# EAGLE library part TLC5940 (library Ai_IC)
16-channel LED Driver with Dot Correction and Grayscale PWM Control The TLC5940 is a 16-channel, constant-current sink LED driver. Each channel has an individually adjustable 4096-step grayscale PWM brightness control and a 64-step, constant-current sink (dot correction). The dot correction adjusts the brightness variations between LED channels and other LED drivers. The dot correction data is stored in an integrated EEPROM. Both grayscale control and dot correction are accessible via a serial interface. A single external resistor sets the maximum current value of all 16 channels. Packages: 28-pin HTSSOP 32-pin 5x5mm QFN 28-pin DIP
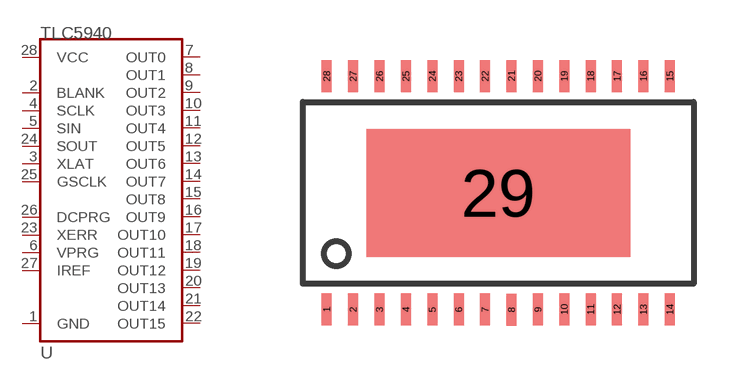
[diagram p0: symbol with the pads of TSSOP28-PAD; footprint TSSOP28-PAD]

Designator prefix U

## TLC5940  [TSSOP28-PAD]
1  GND
2  BLANK
3  XLAT
4  SCLK
5  SIN
6  VPRG
7  OUT0
8  OUT1
9  OUT2
10  OUT3
11  OUT4
12  OUT5
13  OUT6
14  OUT7
15  OUT8
16  OUT9
17  OUT10
18  OUT11
19  OUT12
20  OUT13
21  OUT14
22  OUT15
23  XERR
24  SOUT
25  GSCLK
26  DCPRG
27  IREF
28  VCC

## Footprint TSSOP28-PAD (pad centres in mm)
smd 0.25 x 0.8: 1 -4.298,-3.175; 2 -3.637,-3.175; 3 -2.977,-3.175; 4 -2.317,-3.175; 5 -1.656,-3.175; 6 -0.996,-3.175; 7 -0.335,-3.175; 8 0.325,-3.181; 9 0.985,-3.175; 10 1.646,-3.175; 11 2.306,-3.175; 12 2.967,-3.175; 13 3.627,-3.175; 14 4.287,-3.175; 15 4.287,2.667; 16 3.627,2.667; 17 2.967,2.667; 18 2.306,2.667; 19 1.646,2.667; 20 0.985,2.667; 21 0.325,2.673; 22 -0.335,2.667; 23 -0.996,2.667; 24 -1.656,2.667; 25 -2.317,2.667; 26 -2.977,2.667; 27 -3.637,2.667; 28 -4.298,2.667
smd 6.6 x 3.2: 29 -0.005,-0.254